# Altium schematic symbol library NVT2002DP_118.SchLib: 1 symbol
Pins are listed as number, name and electrical type; pins without a type are passive.

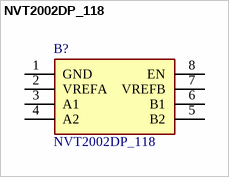
[diagram p0: symbol NVT2002DP_118]

## NVT2002DP_118
designator B?
Translation - Voltage Levels Interface IC; Manufacturer_Name: NXP; Manufacturer_Part_Number: NVT2002DP,118; Geometry.Height: 1.1mm; Mouser Part Number: 771-NVT2002DP118; Mouser Price/Stock: https://www.mouser.co.uk/ProductDetail/NXP-Semiconductors/NVT2002DP118?qs=htEP9ZFZyENRaE6OF%252BxM8A%3D%3D; Datasheet Link: http://www.nxp.com/docs/en/data-sheet/NVT2001_NVT2002.pdf
footprint SOP65P490X110-8N
pins: 1 GND, 2 VREFA, 3 A1, 4 A2, 5 B2, 6 B1, 7 VREFB, 8 EN